# Altium schematic symbol library 10A 250V fuse.SchLib: 1 symbol
Pins are listed as number, name and electrical type; pins without a type are passive.

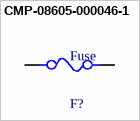
[diagram p0: symbol CMP-08605-000046-1]

## CMP-08605-000046-1
designator F?, comment Fuse
FUSE GLASS 10A 250VAC 5X20MM; Manufacturer Part Number: 0218010.HXP; Manufacturer: Littelfuse Inc; Fuse I2T: 568A2Sec; Fuse Voltage Drop: 100mV; Fuse Blow Speed: Slow; Voltage Rating: 250V; Fuse Interrupt Ac Current: 100A; Resistance: 0.0045Ω; Value: 0.0045Ω; ComponentLink2Description: Datasheet; Lead Free: Yes; Temperature Range High: +125°C; Temperature Range Low: -55°C; Category: Fuse; Automotive: No; Fuse Current: 10A; Height: 5.3mm; ComponentLink2URL: https://www.littelfuse.com/~/media/electronics/datasheets/fuses/littelfuse_fuse_218_datasheet.pdf.pdf; Digikey Description: FUSE GLASS 10A 250VAC 5X20MM; Package: 0; Device Class L3: unset; Mouser Description: Fuse; Cylinder; Slow Blow/Time Lag; 10A; Dims 5x20mm; Glass; Cartridge; 250VAC; Octopart: https://octopart.com/0218010.hxp-littelfuse-566217; Max Fuse Ac Voltage: 250V; Temperature: -55°C to +125°C; RoHS: TRUE; Device Class L1: Circuit Protection; Device Class L2: Fuses
footprint FP-0218010_HXP-MFG
pins: 1, 2